# Altium schematic symbol library Connector.SchLib: 57 symbols
Pins are listed as number, name and electrical type; pins without a type are passive.

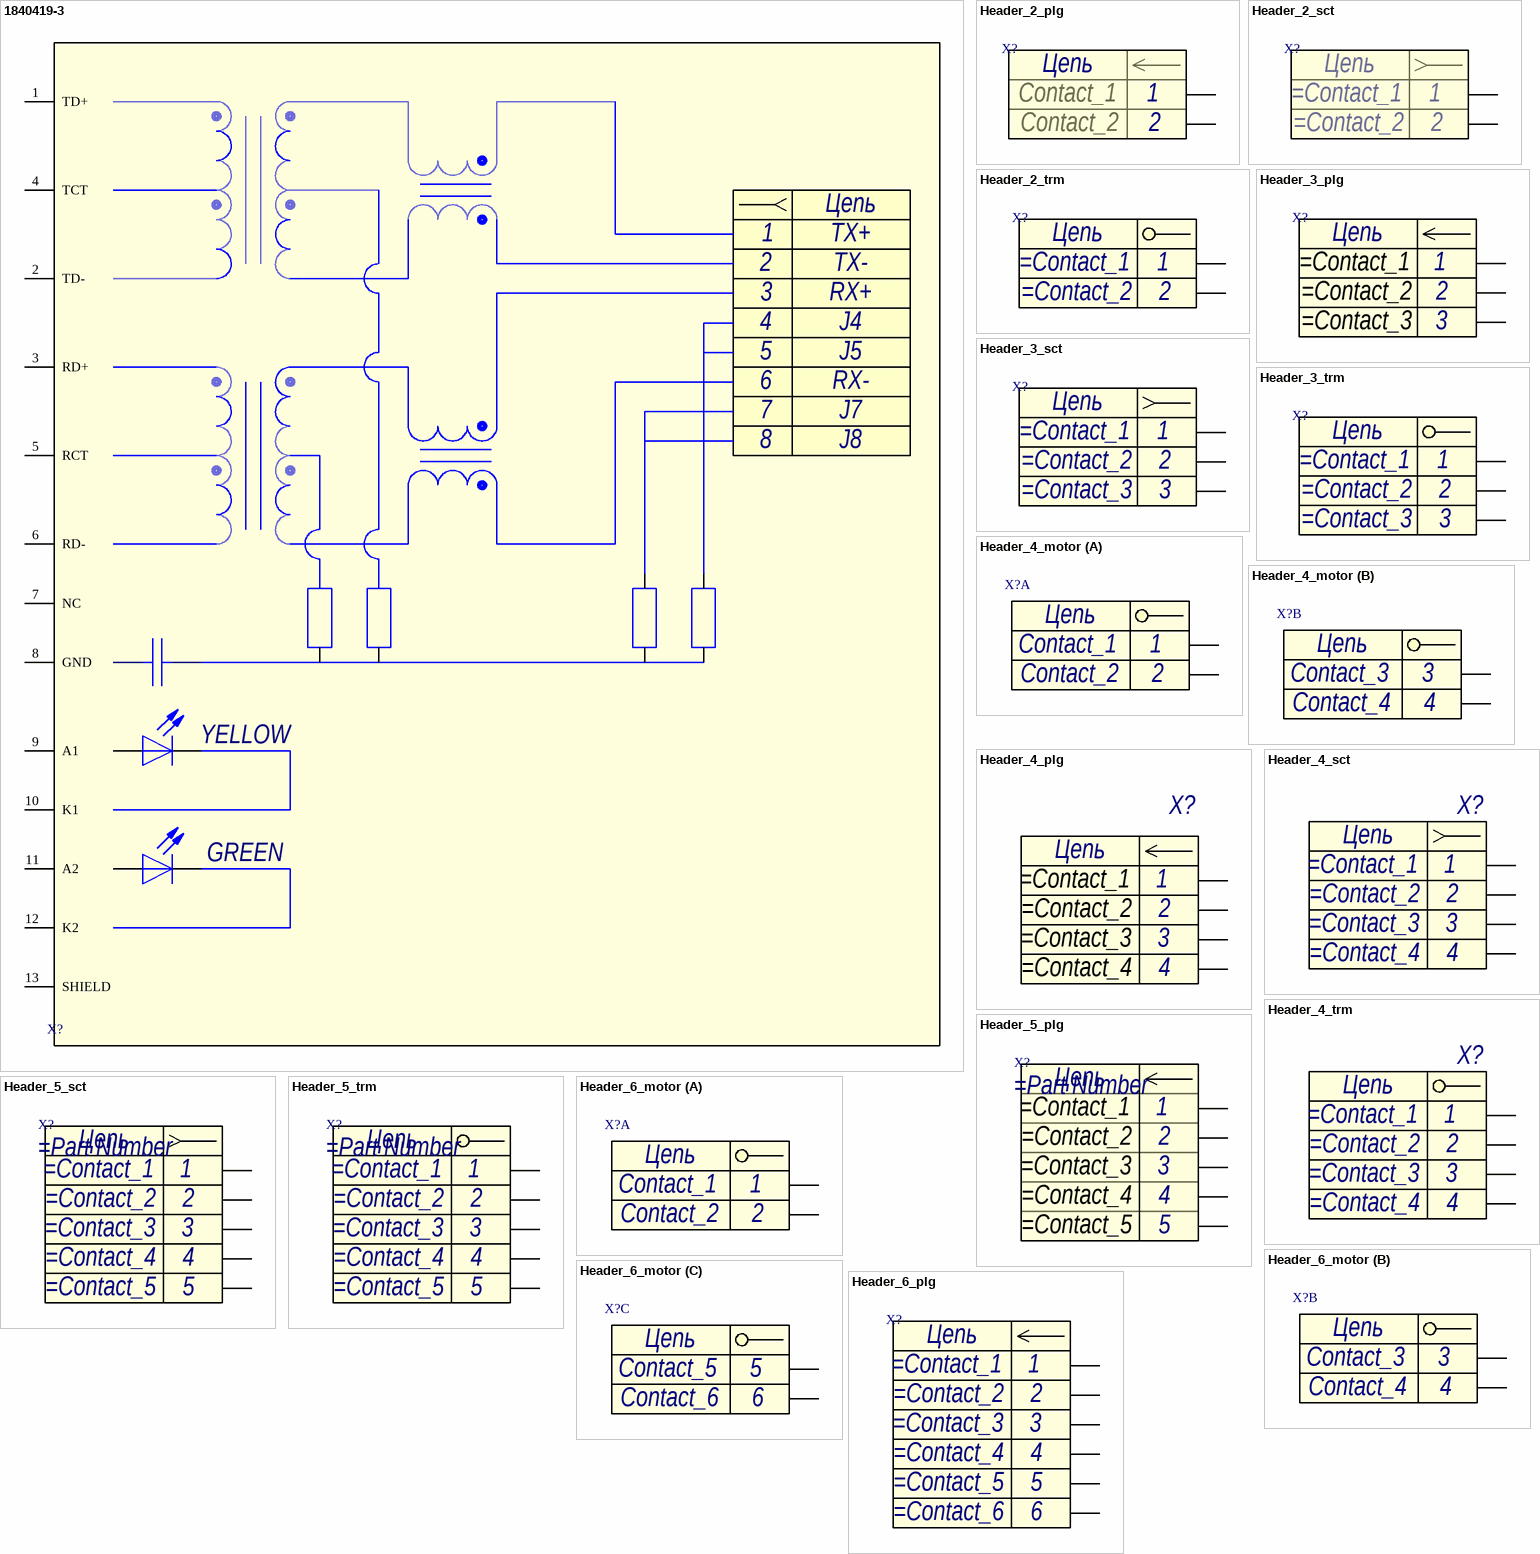
[diagram p0: symbols 1840419-3 to Header_6_plg]

## 1840419-3
designator X?
Разъем - 6 конт. вилка
pins: 1 TD+, 1, 1, 1, 1, 1 K, 1 K, 2 TD-, 2, 2, 2, 2, 2 A, 2 A, 3 RD+, 4 TCT, 5 RCT, 6 RD-, 7 NC, 8 GND, 9 A1, 10 K1, 11 A2, 12 K2, 13 SHIELD
text: Цепь; TX+; TX-; RX+; J4; J5; RX-; J7; J8; YELLOW; GREEN

## Header_2_plg
designator X?
Разъем - 2 конт. вилка; Contact_1: Contact_1; Contact_2: Contact_2
pins: 1, 2
text: Цепь

## Header_2_sct
designator X?
Разъем - 2 конт. розетка
pins: 1, 2
text: Цепь

## Header_2_trm
designator X?
Разъем - 2 конт. клеммник
pins: 1, 2
text: Цепь

## Header_3_plg
designator X?
Разъем - 3 конт. вилка
pins: 1, 2, 3
text: Цепь

## Header_3_sct
designator X?
Разъем - 3 конт. розетка
pins: 1, 2, 3
text: Цепь

## Header_3_trm
designator X?
Разъем - 3 конт. клеммник
pins: 1, 2, 3
text: Цепь

## Header_4_motor
designator X?
POWER; Contact_4: Contact_4; Contact_3: Contact_3; Contact_2: Contact_2; Contact_1: Contact_1
part A pins: 1, 2
part B pins: 3, 4
part A text: Цепь
part B text: Цепь

## Header_4_plg
designator X?
Разъем - 4 конт. вилка
pins: 1, 2, 3, 4
text: Цепь

## Header_4_sct
designator X?
Разъем - 4 конт. розетка
pins: 1, 2, 3, 4
text: Цепь

## Header_4_trm
designator X?
Разъем - 4 конт. клеммник
pins: 1, 2, 3, 4
text: Цепь

## Header_5_plg
designator X?
Разъем - 5 конт. вилка
pins: 1, 2, 3, 4, 5
text: Цепь

## Header_5_sct
designator X?
Разъем - 5 конт. розетка
pins: 1, 2, 3, 4, 5
text: Цепь

## Header_5_trm
designator X?
Разъем - 5 конт. клеммник
pins: 1, 2, 3, 4, 5
text: Цепь

## Header_6_motor
designator X?
POWER; Contact_5: Contact_5; Contact_6: Contact_6; Contact_4: Contact_4; Contact_3: Contact_3; Contact_2: Contact_2; Contact_1: Contact_1
footprint DT-128V-6
part A pins: 1, 2
part B pins: 3, 4
part C pins: 5, 6
part A text: Цепь
part B text: Цепь
part C text: Цепь

## Header_6_plg
designator X?
Разъем - 6 конт. вилка
pins: 1, 2, 3, 4, 5, 6
text: Цепь

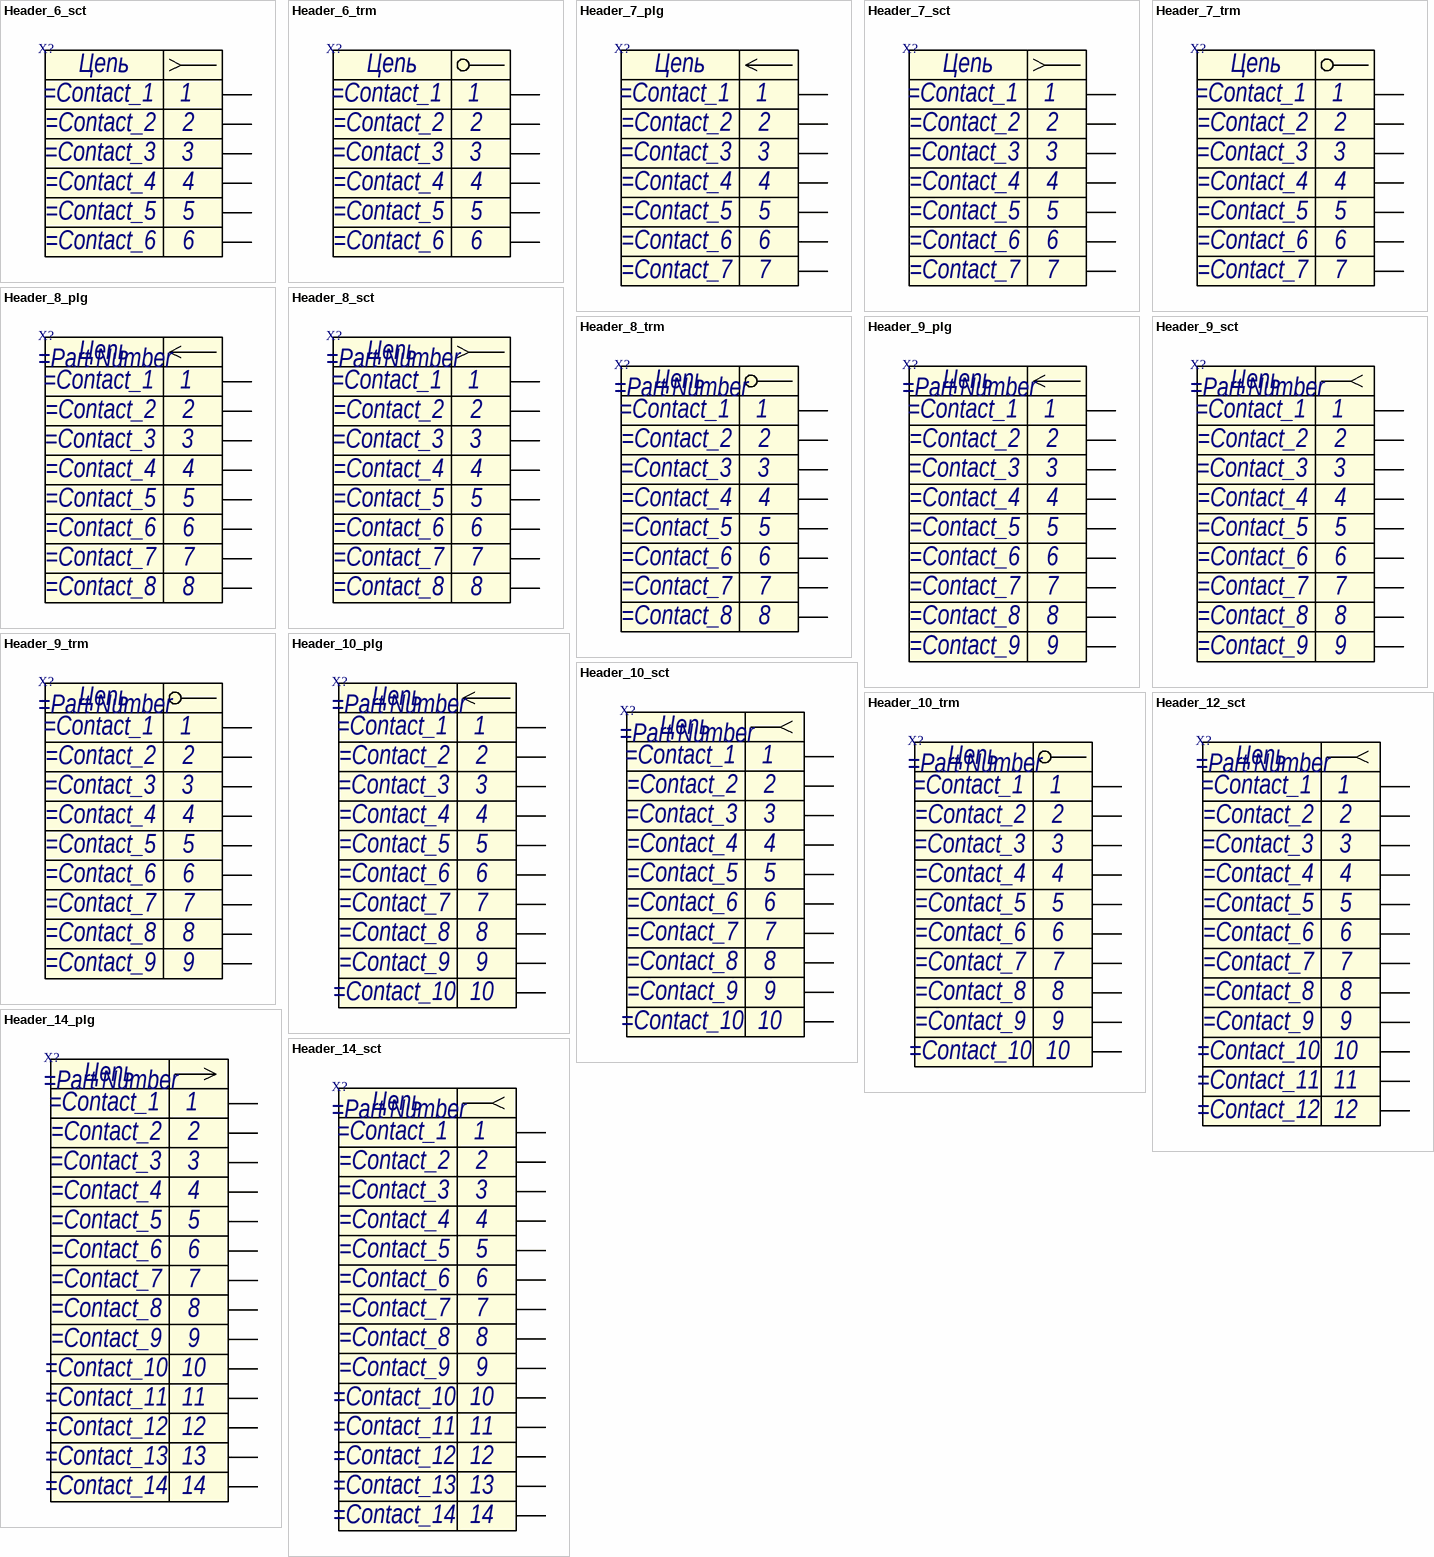
[diagram p1: symbols Header_6_sct to Header_14_sct]

## Header_6_sct
designator X?
Разъем - 6 конт. розетка
pins: 1, 2, 3, 4, 5, 6
text: Цепь

## Header_6_trm
designator X?
Разъем - 6 конт. клеммник
pins: 1, 2, 3, 4, 5, 6
text: Цепь

## Header_7_plg
designator X?
Разъем - 7 конт. вилка
pins: 1, 2, 3, 4, 5, 6, 7
text: Цепь

## Header_7_sct
designator X?
Разъем - 7 конт. розетка
pins: 1, 2, 3, 4, 5, 6, 7
text: Цепь

## Header_7_trm
designator X?
Разъем - 7 конт. клеммник
pins: 1, 2, 3, 4, 5, 6, 7
text: Цепь

## Header_8_plg
designator X?
Разъем - 8 конт. вилка
pins: 1, 2, 3, 4, 5, 6, 7, 8
text: Цепь

## Header_8_sct
designator X?
Разъем - 8 конт. розетка
pins: 1, 2, 3, 4, 5, 6, 7, 8
text: Цепь

## Header_8_trm
designator X?
Разъем - 8 конт. клеммник
pins: 1, 2, 3, 4, 5, 6, 7, 8
text: Цепь

## Header_9_plg
designator X?
Разъем - 9 конт. вилка
pins: 1, 2, 3, 4, 5, 6, 7, 8, 9
text: Цепь

## Header_9_sct
designator X?
Разъем - 9 конт. розетка
pins: 1, 2, 3, 4, 5, 6, 7, 8, 9
text: Цепь

## Header_9_trm
designator X?
Разъем - 9 конт. клеммник
pins: 1, 2, 3, 4, 5, 6, 7, 8, 9
text: Цепь

## Header_10_plg
designator X?
Разъем - 10 конт. вилка
pins: 1, 2, 3, 4, 5, 6, 7, 8, 9, 10
text: Цепь

## Header_10_sct
designator X?
Разъем - 10 конт. розетка
pins: 1, 2, 3, 4, 5, 6, 7, 8, 9, 10
text: Цепь

## Header_10_trm
designator X?
Разъем - 10 конт. клеммник
pins: 1, 2, 3, 4, 5, 6, 7, 8, 9, 10
text: Цепь

## Header_12_sct
designator X?
Разъем - 12 конт. розетка
pins: 1, 2, 3, 4, 5, 6, 7, 8, 9, 10, 11, 12
text: Цепь

## Header_14_plg
designator X?
Разъем - 14 конт. вилка
pins: 1, 2, 3, 4, 5, 6, 7, 8, 9, 10, 11, 12, 13, 14
text: Цепь

## Header_14_sct
designator X?
Разъем - 14 конт. розетка
pins: 1, 2, 3, 4, 5, 6, 7, 8, 9, 10, 11, 12, 13, 14
text: Цепь

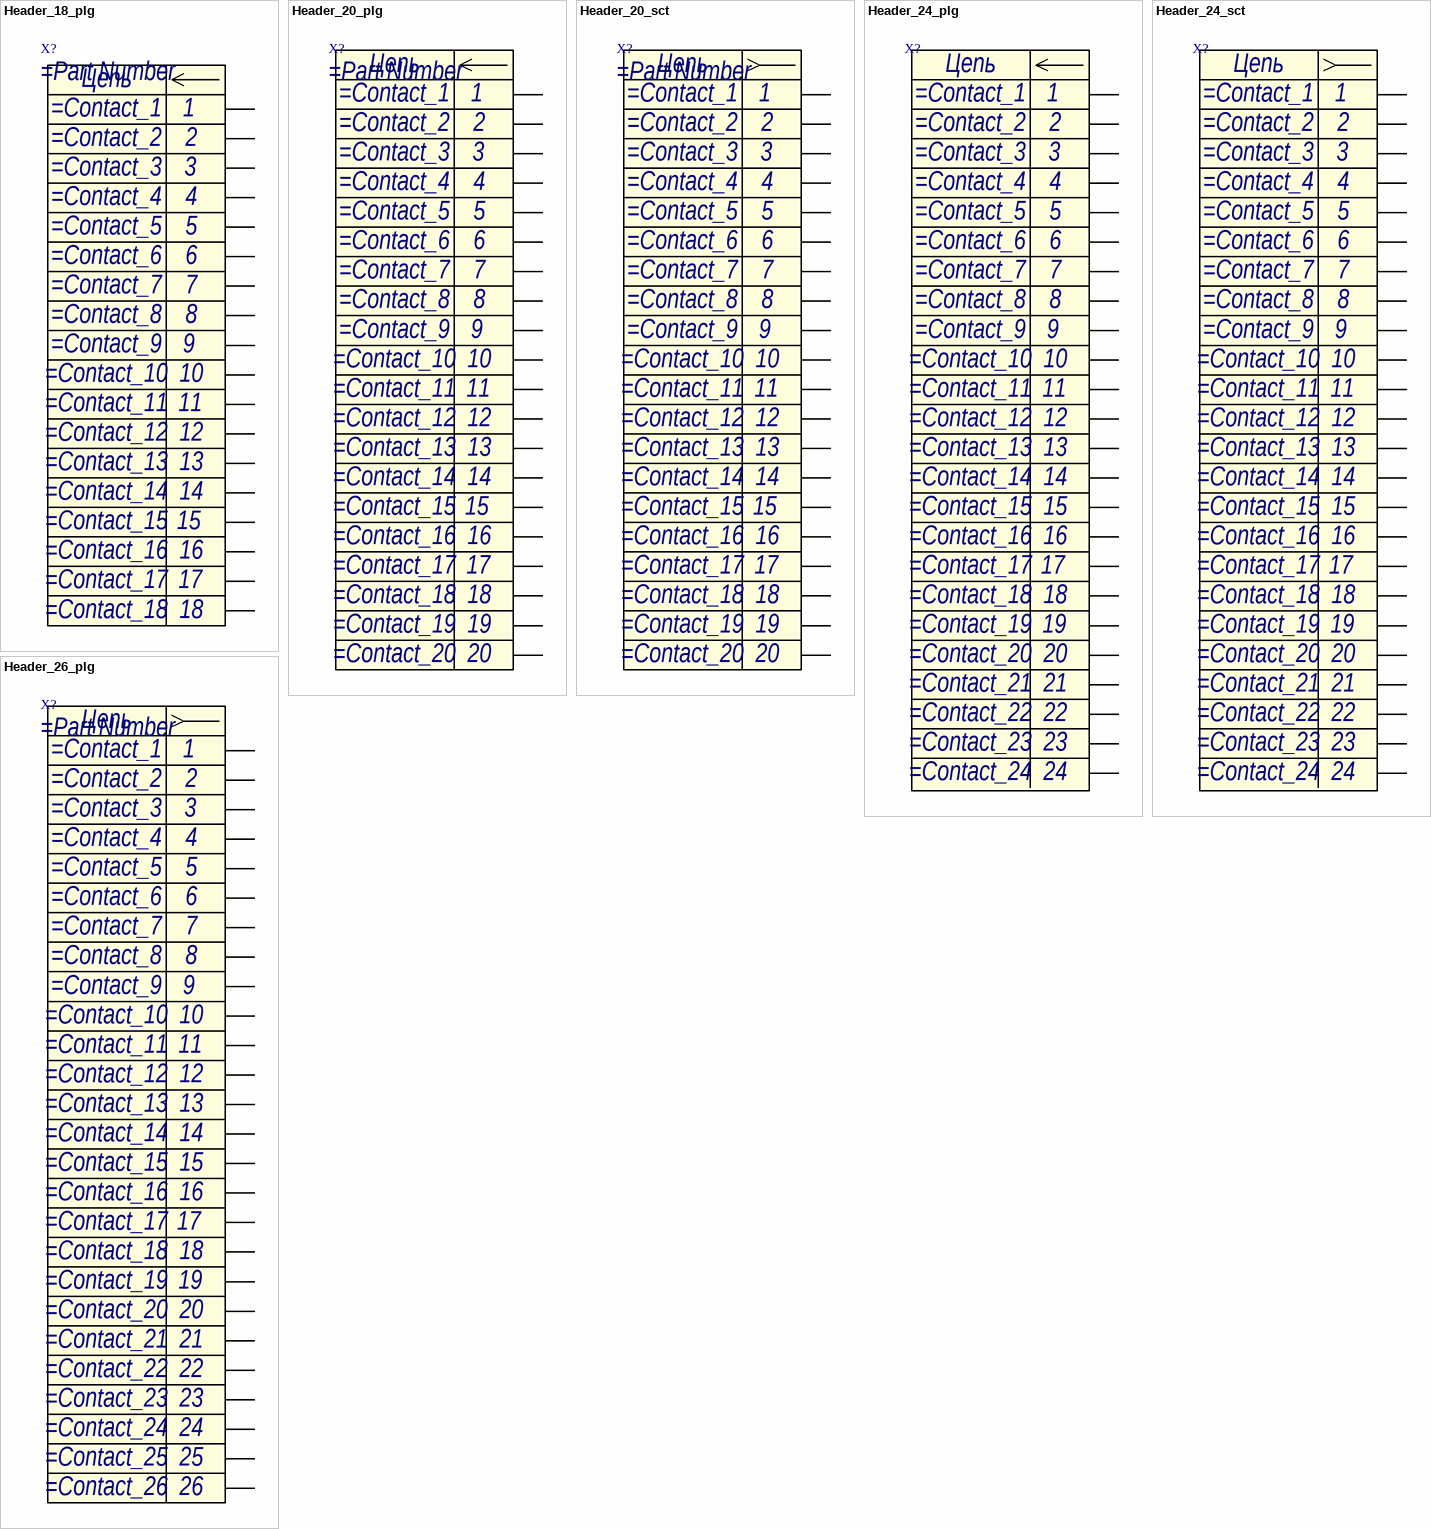
[diagram p2: symbols Header_18_plg to Header_26_plg]

## Header_18_plg
designator X?
Разъем - 18 конт. вилка
pins: 1, 2, 3, 4, 5, 6, 7, 8, 9, 10, 11, 12, 13, 14, 15, 16, 17, 18
text: Цепь

## Header_20_plg
designator X?
Разъем - 20 конт. вилка
pins: 1, 2, 3, 4, 5, 6, 7, 8, 9, 10, 11, 12, 13, 14, 15, 16, 17, 18, 19, 20
text: Цепь

## Header_20_sct
designator X?
Разъем - 20 конт. розетка
pins: 1, 2, 3, 4, 5, 6, 7, 8, 9, 10, 11, 12, 13, 14, 15, 16, 17, 18, 19, 20
text: Цепь

## Header_24_plg
designator X?
Разъем - 5 конт. вилка
pins: 1, 2, 3, 4, 5, 6, 7, 8, 9, 10, 11, 12, 13, 14, 15, 16, 17, 18, 19, 20, 21, 22, 23, 24
text: Цепь

## Header_24_sct
designator X?
Разъем - 5 конт. розетка
pins: 1, 2, 3, 4, 5, 6, 7, 8, 9, 10, 11, 12, 13, 14, 15, 16, 17, 18, 19, 20, 21, 22, 23, 24
text: Цепь

## Header_26_plg
designator X?
Разъем - 5 конт. вилка
pins: 1, 2, 3, 4, 5, 6, 7, 8, 9, 10, 11, 12, 13, 14, 15, 16, 17, 18, 19, 20, 21, 22, 23, 24, 25, 26
text: Цепь

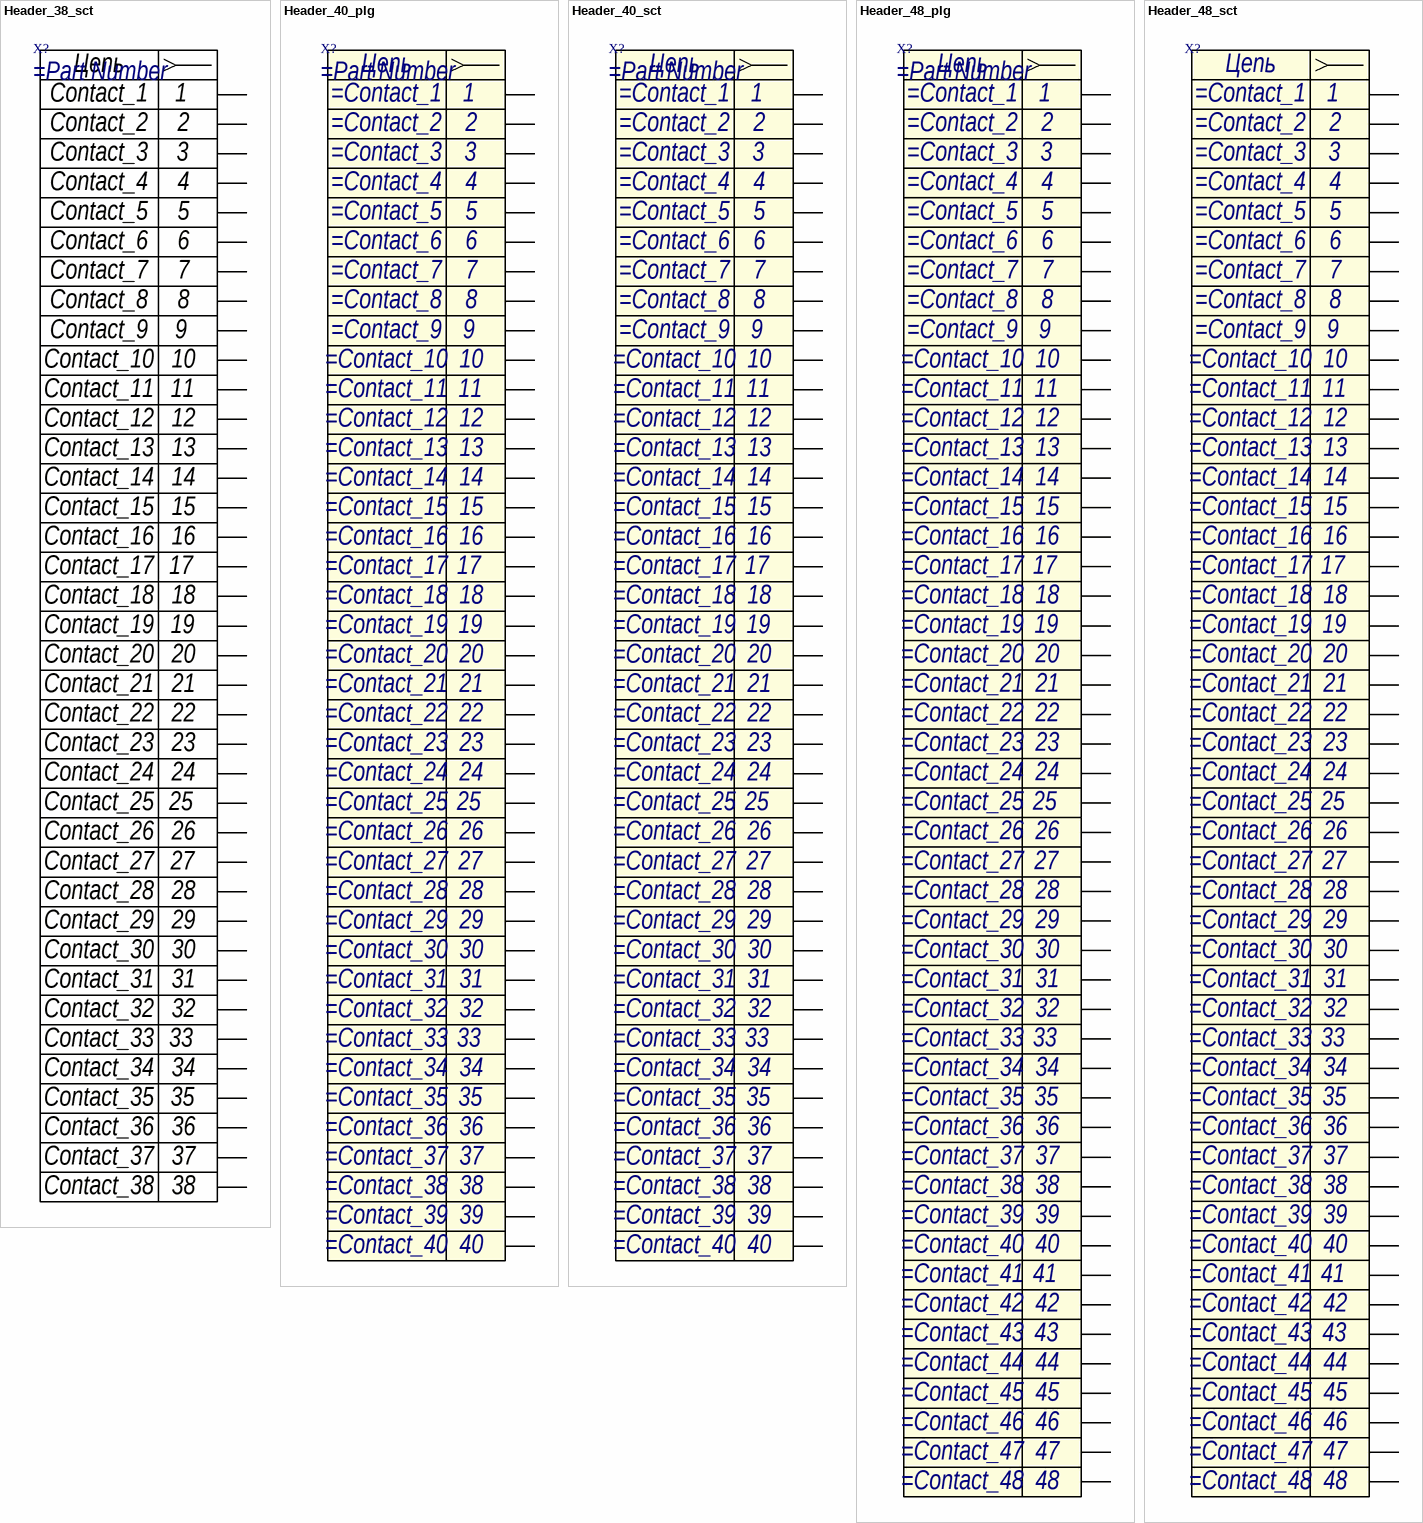
[diagram p3: symbols Header_38_sct to Header_48_sct]

## Header_38_sct
designator X?
Разъем - 5 конт. розетка; Contact_1: Contact_1; Name: *; Contact_2: Contact_2; Contact_6: Contact_6; Contact_7: Contact_7; Contact_8: Contact_8; Contact_9: Contact_9; Contact_10: Contact_10; Contact_11: Contact_11; Contact_12: Contact_12; Contact_13: Contact_13; Contact_3: Contact_3; Contact_4: Contact_4; Contact_5: Contact_5; Contact_14: Contact_14; Contact_15: Contact_15; Contact_16: Contact_16; Contact_17: Contact_17; Contact_18: Contact_18; Contact_19: Contact_19; Contact_20: Contact_20; Contact_21: Contact_21; Contact_22: Contact_22; Contact_23: Contact_23; Contact_24: Contact_24; Contact_25: Contact_25; Contact_26: Contact_26; Contact_27: Contact_27; Contact_28: Contact_28; Contact_29: Contact_29; Contact_30: Contact_30; Contact_31: Contact_31; Contact_32: Contact_32; Contact_33: Contact_33; Contact_34: Contact_34; Contact_35: Contact_35; Contact_36: Contact_36; Contact_37: Contact_37; Contact_38: Contact_38
pins: 1, 2, 3, 4, 5, 6, 7, 8, 9, 10, 11, 12, 13, 14, 15, 16, 17, 18, 19, 20, 21, 22, 23, 24, 25, 26, 27, 28, 29, 30, 31, 32, 33, 34, 35, 36, 37, 38
text: Цепь

## Header_40_plg
designator X?
Разъем - 5 конт. вилка
footprint PBS-40
pins: 1, 2, 3, 4, 5, 6, 7, 8, 9, 10, 11, 12, 13, 14, 15, 16, 17, 18, 19, 20, 21, 22, 23, 24, 25, 26, 27, 28, 29, 30, 31, 32, 33, 34, 35, 36, 37, 38, 39, 40
text: Цепь

## Header_40_sct
designator X?
Разъем - 5 конт. розетка
footprint PBS-40
pins: 1, 2, 3, 4, 5, 6, 7, 8, 9, 10, 11, 12, 13, 14, 15, 16, 17, 18, 19, 20, 21, 22, 23, 24, 25, 26, 27, 28, 29, 30, 31, 32, 33, 34, 35, 36, 37, 38, 39, 40
text: Цепь

## Header_48_plg
designator X?
Разъем - 5 конт. вилка
pins: 1, 2, 3, 4, 5, 6, 7, 8, 9, 10, 11, 12, 13, 14, 15, 16, 17, 18, 19, 20, 21, 22, 23, 24, 25, 26, 27, 28, 29, 30, 31, 32, 33, 34, 35, 36, 37, 38, 39, 40, 41, 42, 43, 44, 45, 46, 47, 48
text: Цепь

## Header_48_sct
designator X?
Разъем - 5 конт. розетка
pins: 1, 2, 3, 4, 5, 6, 7, 8, 9, 10, 11, 12, 13, 14, 15, 16, 17, 18, 19, 20, 21, 22, 23, 24, 25, 26, 27, 28, 29, 30, 31, 32, 33, 34, 35, 36, 37, 38, 39, 40, 41, 42, 43, 44, 45, 46, 47, 48
text: Цепь

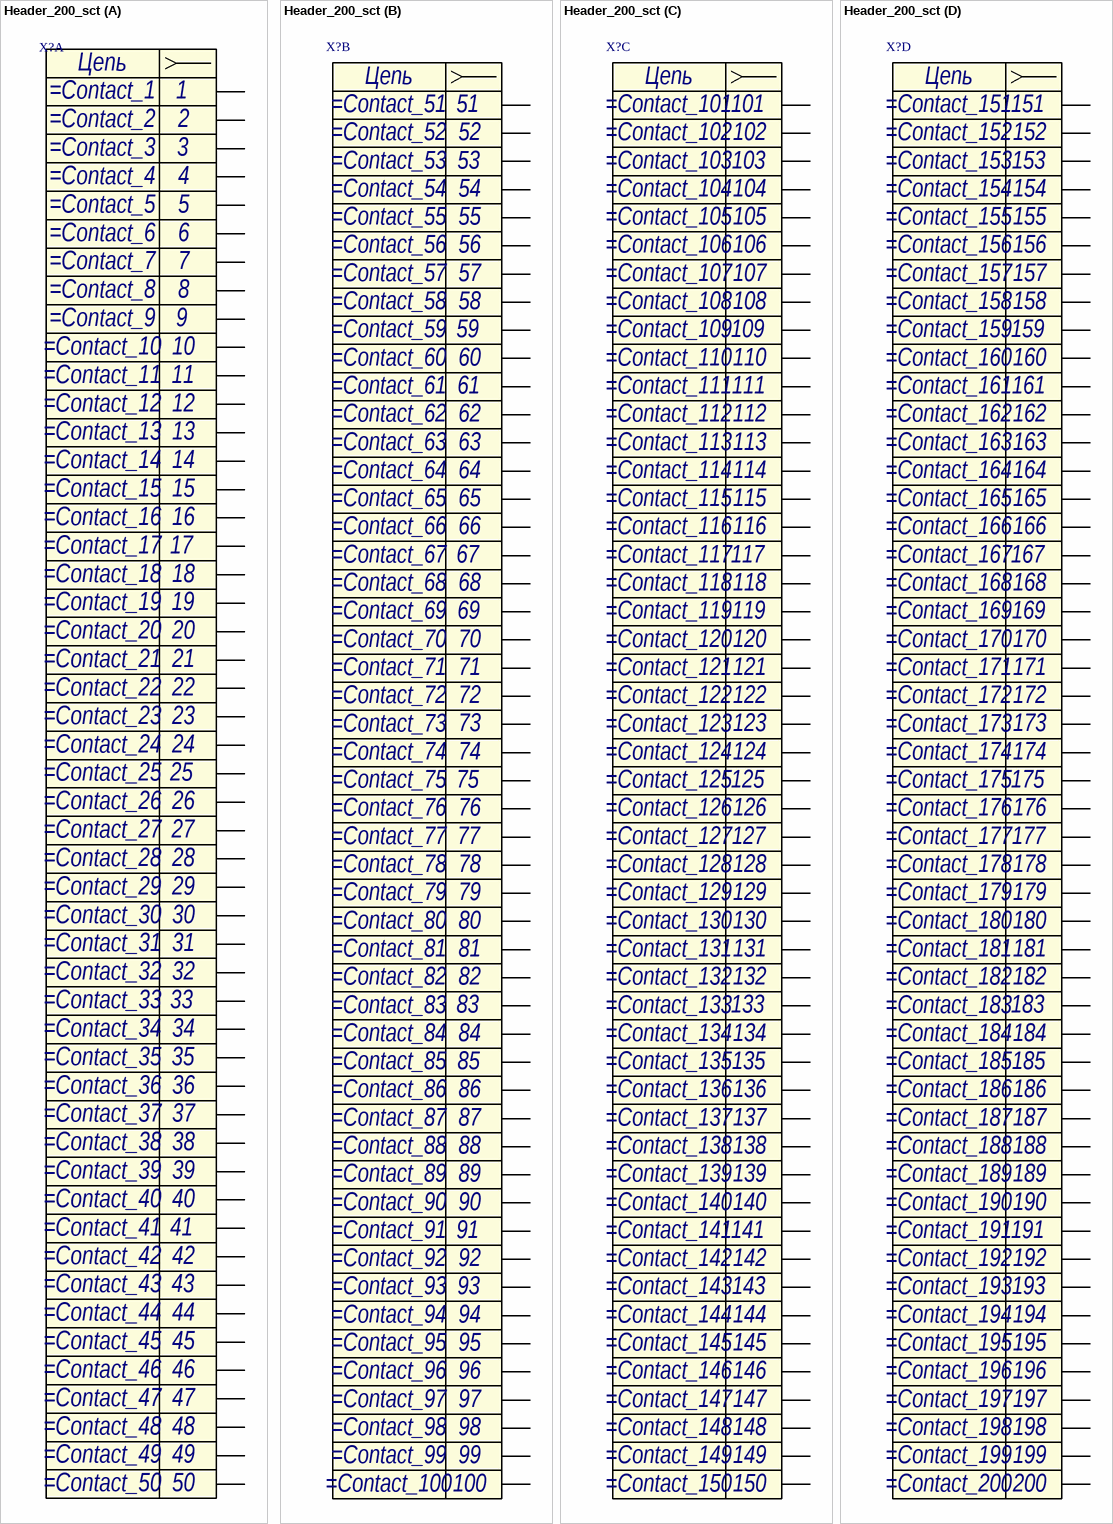
[diagram p4: symbol Header_200_sct]

## Header_200_sct
designator X?
Разъем - 5 конт. розетка
part A pins: 1, 2, 3, 4, 5, 6, 7, 8, 9, 10, 11, 12, 13, 14, 15, 16, 17, 18, 19, 20, 21, 22, 23, 24, 25, 26, 27, 28, 29, 30, 31, 32, 33, 34, 35, 36, 37, 38, 39, 40, 41, 42, 43, 44, 45, 46, 47, 48, 49, 50
part B pins: 51, 52, 53, 54, 55, 56, 57, 58, 59, 60, 61, 62, 63, 64, 65, 66, 67, 68, 69, 70, 71, 72, 73, 74, 75, 76, 77, 78, 79, 80, 81, 82, 83, 84, 85, 86, 87, 88, 89, 90, 91, 92, 93, 94, 95, 96, 97, 98, 99, 100
part C pins: 101, 102, 103, 104, 105, 106, 107, 108, 109, 110, 111, 112, 113, 114, 115, 116, 117, 118, 119, 120, 121, 122, 123, 124, 125, 126, 127, 128, 129, 130, 131, 132, 133, 134, 135, 136, 137, 138, 139, 140, 141, 142, 143, 144, 145, 146, 147, 148, 149, 150
part D pins: 151, 152, 153, 154, 155, 156, 157, 158, 159, 160, 161, 162, 163, 164, 165, 166, 167, 168, 169, 170, 171, 172, 173, 174, 175, 176, 177, 178, 179, 180, 181, 182, 183, 184, 185, 186, 187, 188, 189, 190, 191, 192, 193, 194, 195, 196, 197, 198, 199, 200
part A text: Цепь
part B text: Цепь
part C text: Цепь
part D text: Цепь

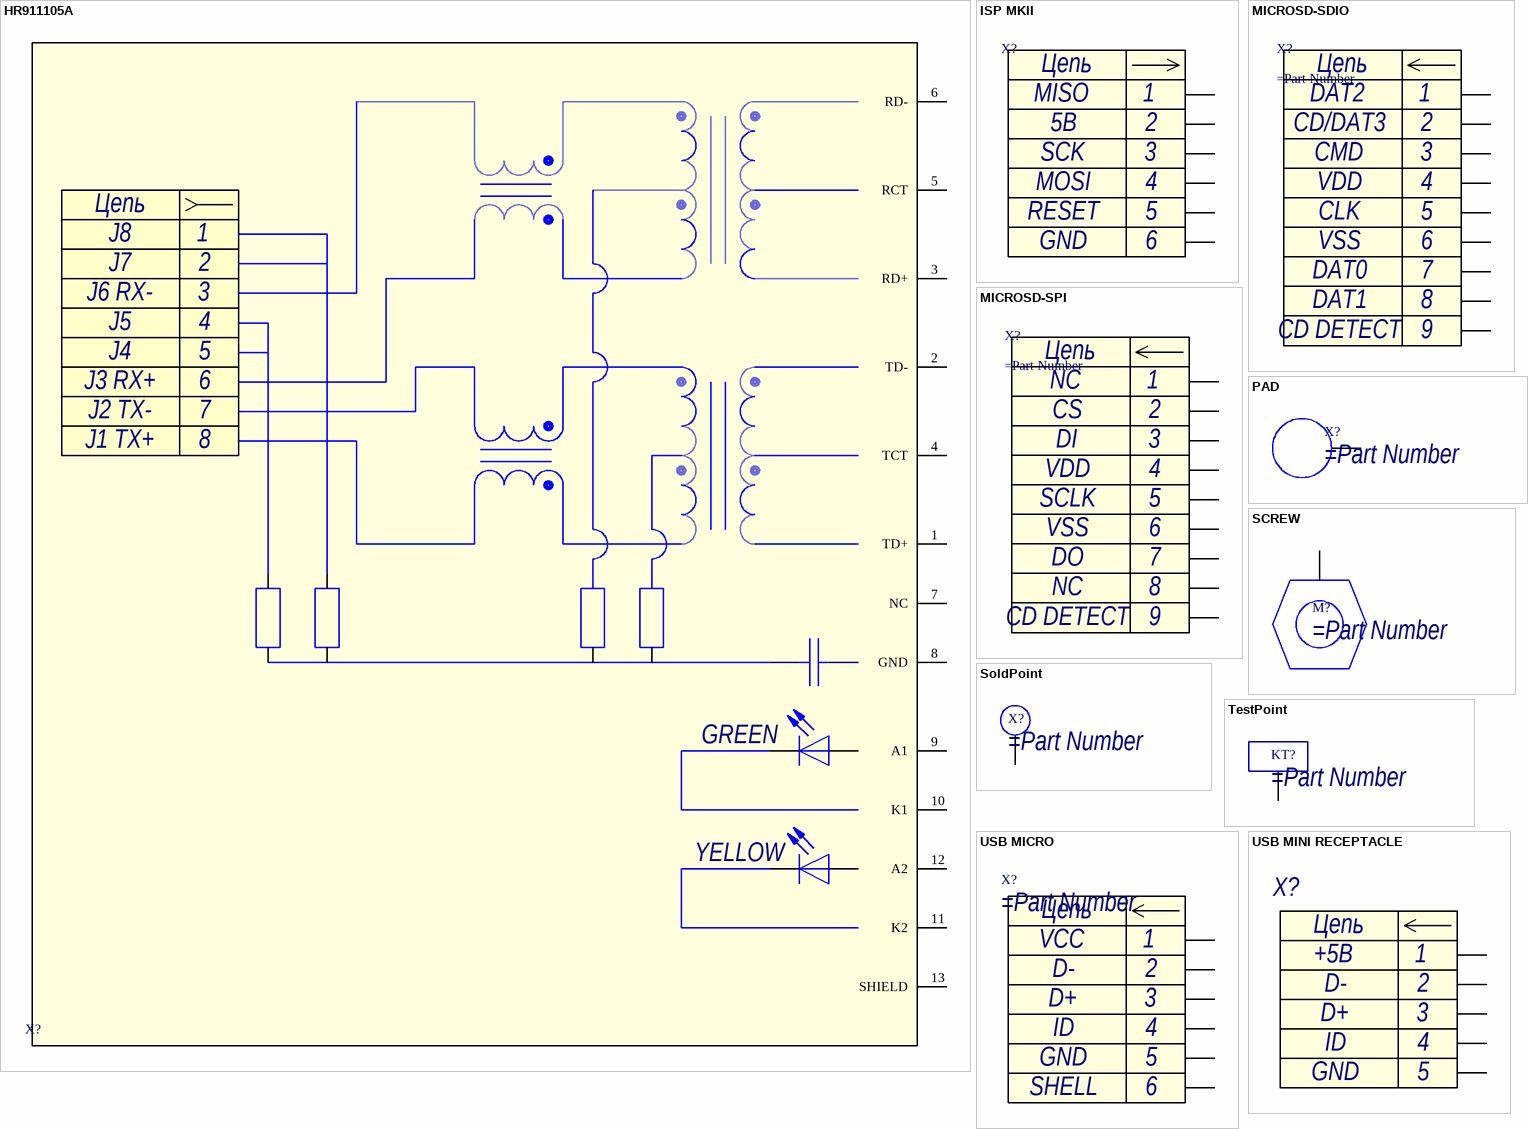
[diagram p5: symbols HR911105A to USB MINI RECEPTACLE]

## HR911105A
designator X?
Разъем - 6 конт. вилка
pins: 1 TD+, 1, 1, 1, 1, 1 K, 1 K, 2 TD-, 2, 2, 2, 2, 2 A, 2 A, 3 RD+, 4 TCT, 5 RCT, 6 RD-, 7 NC, 8 GND, 9 A1, 10 K1, 11 K2, 12 A2, 13 SHIELD
text: Цепь; J8; J7; J6 RX-; J5; J4; J3 RX+; J2 TX-; J1 TX+; GREEN; YELLOW

## ISP MKII
designator X?
Разъем - 6 конт. вилка
pins: 1, 2, 3, 4, 5, 6
text: Цепь; MISO; 5B; SCK; MOSI; RESET; GND

## MICROSD-SDIO
designator X?
pins: 1, 2, 3, 4, 5, 6, 7, 8, 9
text: Цепь; DAT2; CD/DAT3; CMD; VDD; CLK; VSS; DAT0; DAT1; CD DETECT

## MICROSD-SPI
designator X?
pins: 1, 2, 3, 4, 5, 6, 7, 8, 9
text: Цепь; NC; CS; DI; VDD; SCLK; VSS; DO; CD DETECT

## PAD
designator X?
pins: 1

## SCREW
designator M?
pins: 1

## SoldPoint
designator X?
pins: 1

## TestPoint
designator KT?
pins: 1

## USB MICRO
designator X?
pins: 1, 2, 3, 4, 5, 6
text: Цепь; VCC; D-; D+; ID; GND; SHELL

## USB MINI RECEPTACLE
designator X?
USB Mini Type AB Receptacle
pins: 1, 2, 3, 4, 5
text: Цепь; +5В; D-; D+; ID; GND

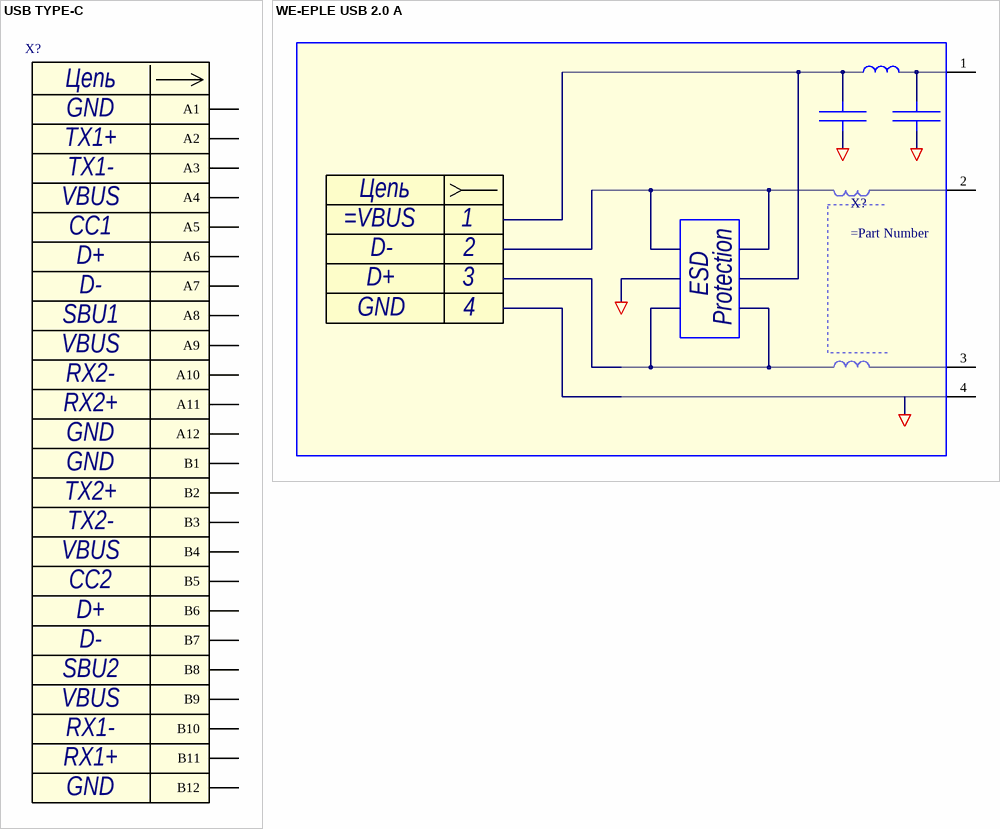
[diagram p6: symbols USB TYPE-C to WE-EPLE USB 2.0 A]

## USB TYPE-C
designator X?
pins: A1, A2, A3, A4, A5, A6, A7, A8, A9, A10, A11, A12, B1, B2, B3, B4, B5, B6, B7, B8, B9, B10, B11, B12
text: Цепь; GND; TX1+; TX1-; VBUS; CC1; D+; D-; SBU1; RX2-; RX2+; TX2+; TX2-; CC2; SBU2; RX1-; RX1+

## WE-EPLE USB 2.0 A
designator X?
USB 2.0 A Гнездо с ESD защитой
pins: 1 VBUS, 2 D-, 3 D+, 4 GND
text: Цепь; ESD; Protection